# EAGLE library part LAN9500A-ABZJ (library hosho)
Ethernet Controller,56VQFN
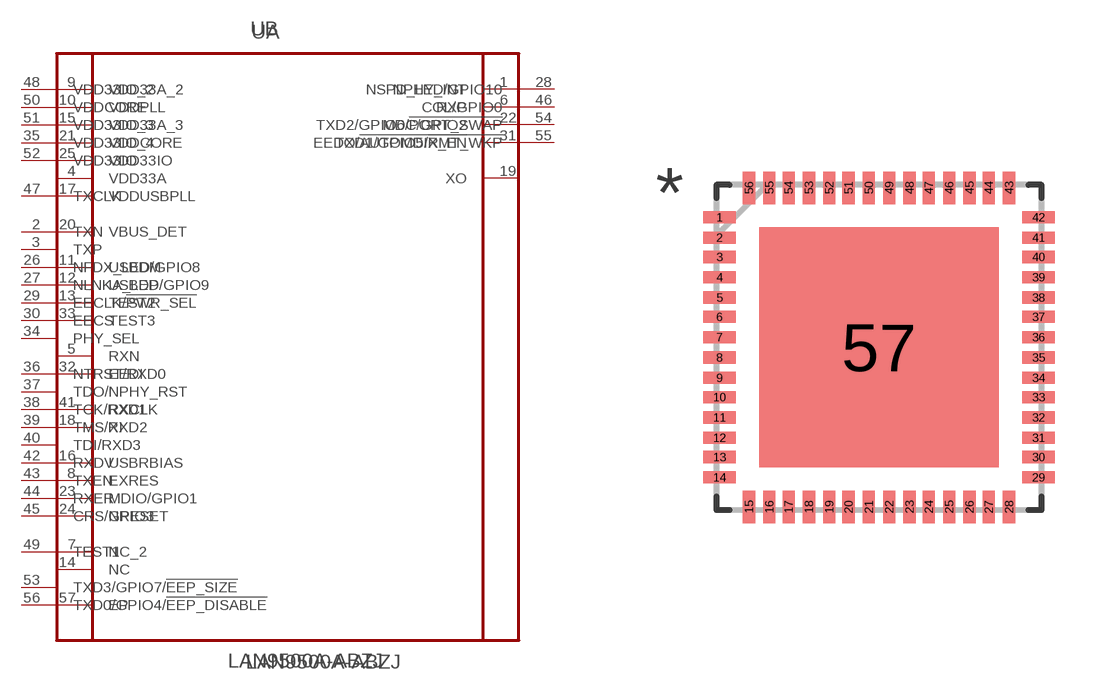
[diagram p0: symbol with the pads of QFN50P800X800X100-57N; footprint QFN50P800X800X100-57N]

Designator prefix U; gates A=LAN9500A-ABZJ_A B=LAN9500A-ABZJ_B

## LAN9500A-ABZJ (MPN: LAN9500A-ABZJ; OC_FARNELL: 2292585; OC_NEWARK: 66W1987; PACKAGE: 56VQFN; SUPPLIER: MICROCHIP)  [QFN50P800X800X100-57N]
1  A:NPHY_INT  pas
2  B:TXN
3  B:TXP
4  A:VDD33A  pwr
5  A:RXN
6  A:RXP
7  A:NC_2  nc
8  A:EXRES  in
9  A:VDD33A_2  pwr
10  A:VDDPLL  pwr
11  A:USBDM
12  A:USBDP
13  A:TEST2  pwr
14  A:NC  nc
15  A:VDD33A_3  pwr
16  A:USBRBIAS  in
17  A:VDDUSBPLL  pwr
18  A:XI  in
19  A:XO  out
20  A:VBUS_DET  pwr
21  A:VDDCORE
22  A:MDC/GPIO2
23  A:MDIO/GPIO1
24  A:NRESET  in
25  A:VDD33IO  pwr
26  B:NFDX_LED/GPIO8
27  B:NLNKA_LED/GPIO9
28  B:NSPD_LED/GPIO10
29  B:EECLK/!PWR_SEL  in
30  B:EECS  in
31  A:EEDO/!AUTOMDIX_EN  pas
32  A:EEDI  in
33  A:TEST3  pwr
34  B:PHY_SEL  in
35  B:VDD33IO_4  pwr
36  B:NTRST/RXD0  in
37  B:TDO/NPHY_RST  out
38  B:TCK/RXD1  in
39  B:TMS/RXD2  in
40  B:TDI/RXD3  in
41  A:RXCLK  in
42  B:RXDV  in
43  B:TXEN  out
44  B:RXER  in
45  B:CRS/GPIO3
46  B:COL/GPIO0
47  B:TXCLK  in
48  B:VDD33IO_2  pwr
49  B:TEST1  pwr
50  B:VDDCORE  pwr
51  B:VDD33IO_3  pwr
52  B:VDD33IO  pwr
53  B:TXD3/GPIO7/!EEP_SIZE
54  B:TXD2/GPIO6/!PORT_SWAP
55  B:TXD1/GPIO5/!RMT_WKP
56  B:TXD0/GPIO4/!EEP_DISABLE
57  A:EP  pas

## Footprint QFN50P800X800X100-57N (pad centres in mm)
smd 0.813 x 0.305: 1 -3.988,3.251; 2 -3.988,2.743; 3 -3.988,2.261; 4 -3.988,1.753; 5 -3.988,1.245; 6 -3.988,0.762; 7 -3.988,0.254; 8 -3.988,-0.254; 9 -3.988,-0.762; 10 -3.988,-1.245; 11 -3.988,-1.753; 12 -3.988,-2.261; 13 -3.988,-2.743; 14 -3.988,-3.251; 29 3.988,-3.251; 30 3.988,-2.743; 31 3.988,-2.261; 32 3.988,-1.753; 33 3.988,-1.245; 34 3.988,-0.762; 35 3.988,-0.254; 36 3.988,0.254; 37 3.988,0.762; 38 3.988,1.245; 39 3.988,1.753; 40 3.988,2.261; 41 3.988,2.743; 42 3.988,3.251
smd 0.305 x 0.813: 15 -3.251,-3.988; 16 -2.743,-3.988; 17 -2.261,-3.988; 18 -1.753,-3.988; 19 -1.245,-3.988; 20 -0.762,-3.988; 21 -0.254,-3.988; 22 0.254,-3.988; 23 0.762,-3.988; 24 1.245,-3.988; 25 1.753,-3.988; 26 2.261,-3.988; 27 2.743,-3.988; 28 3.251,-3.988; 43 3.251,3.988; 44 2.743,3.988; 45 2.261,3.988; 46 1.753,3.988; 47 1.245,3.988; 48 0.762,3.988; 49 0.254,3.988; 50 -0.254,3.988; 51 -0.762,3.988; 52 -1.245,3.988; 53 -1.753,3.988; 54 -2.261,3.988; 55 -2.743,3.988; 56 -3.251,3.988
smd 5.994 x 5.994: 57 0,0